# Altium footprint library IND_LQH5BPN470M38L.PcbLib: 1 footprints
Each footprint in its own frame and in the unit in brackets; x right, y up, seen from the top. Pads: shape width x height; smd on the part's side, far side on the other; paste and mask are expansions set on the pad; w line width, h text height; cw(c..) or ccw(c..) is an arc to the next point about the centre after c.
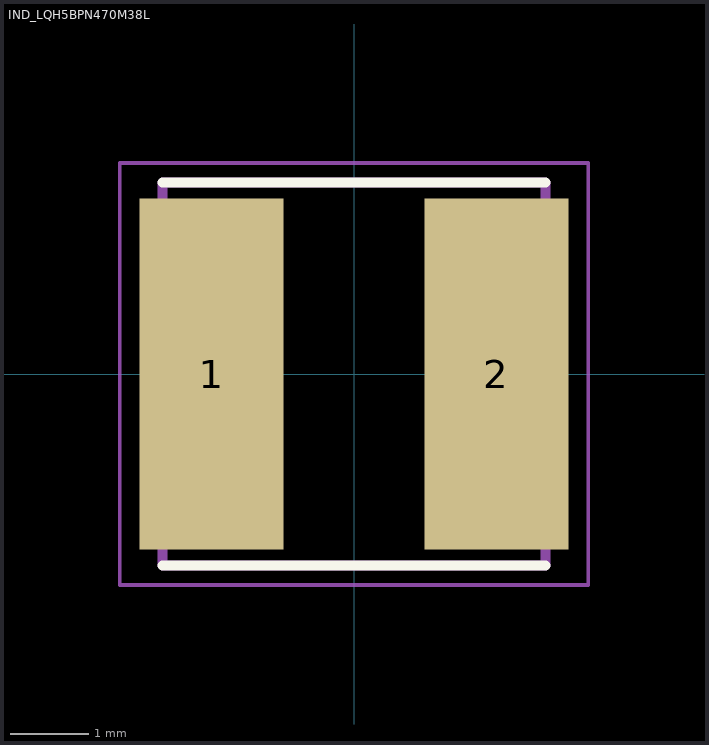
[diagram p0: the footprint, top view; thin cyan lines are the x and y axes]

## IND_LQH5BPN470M38L [mm]
pads (2):
  rect 1.85x4.5 smd: 1(-1.825,0) 2(1.825,0)
Top Overlay:
  lines w0.127: -2.45,-2.45 2.45,-2.45 ; -2.45,2.45 2.45,2.45
Mechanical 13:
  lines w0.127: -2.45,-2.45 2.45,-2.45 2.45,2.45 -2.45,2.45 -2.45,-2.45
Mechanical 15:
  lines w0.05: -3,-2.7 3,-2.7 3,2.7 -3,2.7 -3,-2.7
3D body "LQH5BPN100M38L.STEP": height 4, standoff 0, extent -2.45,-2.54 2.45,2.36